# Altium integrated library Analog Devices Data Converters Analog-to-Digital Converters.IntLib: 2400 symbols (part 211 of 338)
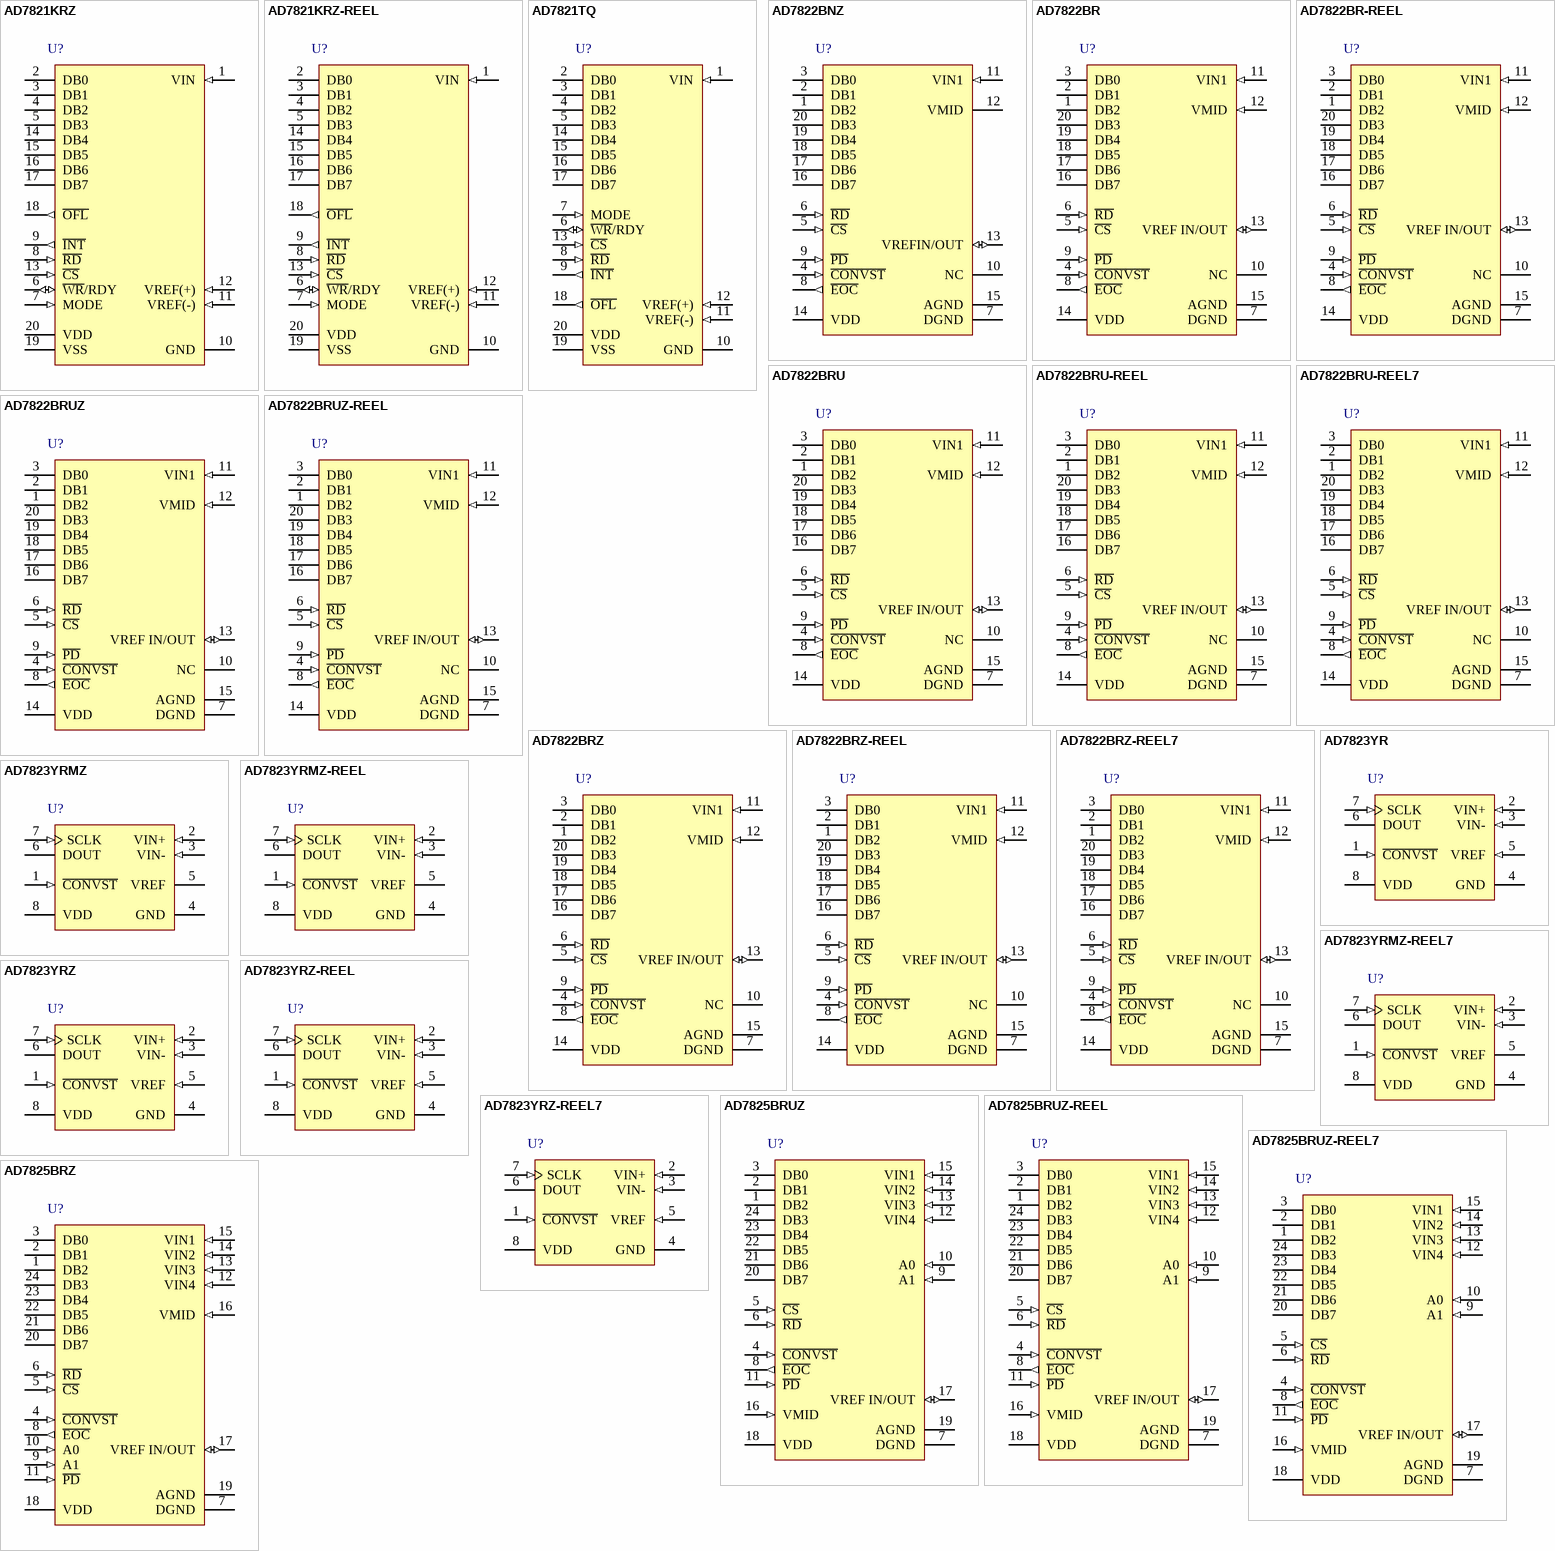
[diagram p271: symbols AD7821KRZ to AD7825BRZ]

## AD7822BRZ-REEL
designator U?
Single 8-Bit Sampling Analog-to-Digital Converter with Parallel Interface, 3 V / 5 V, 2MSPS, -40 to +85 degC, RW-20, Pb-Free, Reel; Part Number: AD7822; Manufacturer: Analog Devices; Resolution (Bits): 8; Channels: 1; Throughput Rate (SPS): 2M; Interface: Par; DatasheetVersion: Rev.C; PackageVersion: 060706-A; PackageReference: RW-20; PackageDescription: 20-Lead Standard Small Outline Package [SOIC_W] Wide Body; RoHS: Y; Packing: Reel; Mounting Technology: Surface Mount; Code_JEDEC: MS-013-AC; ComponentLink1Description: Manufacturer URL; ComponentLink1URL: http://www.analog.com/en/index.html; ComponentLink2Description: Datasheet; ComponentLink2URL: http://www.analog.com/static/imported-files/data_sheets/AD7822_7825_7829.pdf; ComponentLink3Description: Package Specification; ComponentLink3URL: http://www.analog.com/static/imported-files/packages/233848RW_20.pdf; ComponentLink4Description: Product URL; ComponentLink4URL: http://www.analog.com/en/analog-to-digital-converters/ad-converters/ad7822/products/product.html
footprint RW-20_N (SOIC, 20-Leads, Body 12.8x7.5mm, Pitch 1.27mm, IPC Medium Density)
footprint RW-20_L (SOIC, 20-Leads, Body 12.8x7.5mm, Pitch 1.27mm, IPC High Density)
footprint RW-20_M (SOIC, 20-Leads, Body 12.8x7.5mm, Pitch 1.27mm, IPC Low Density)
pins: 1 DB2 (hiz) "Data Output Lines. They are normally held in a high impedance state. Data is driven onto the data bus when both R\D\ and C\S\.", 2 DB1 (hiz) "Data Output Lines. They are normally held in a high impedance state. Data is driven onto the data bus when both R\D\ and C\S\.", 3 DB0 (hiz) "Data Output Lines. They are normally held in a high impedance state. Data is driven onto the data bus when both R\D\ and C\S\.", 4 ~{CONVST} (in) "Logic Input Signal. The convert start signal initiates an 8-bit analog-to-digital conversion on the falling edge of this signal. The falling edge of this signal places the track-and-hold in hold mode. The track-and-hold goes (See Datasheet)", 5 ~{CS} (in) "Logic Input Signal. The chip select signal is used to enable the parallel port of the AD7822/AD7825/AD7829. This is necessary if the ADC is sharing a common data bus with another device.", 6 ~{RD} (in) "Logic Input Signal. The read signal is used to take the output buffers out of their high impedance state and drive data onto the data bus. The signal is internally gated with the C\S\  signal. Both R\D\  and C\S\  must be (See Datasheet)", 7 DGND (power) "Digital Ground. Ground reference for digital circuitry.", 8 ~{EOC} (out) "Logic Output. The end-of-conversion signal indicates when a conversion has finished. The signal can be used to interrupt a microcontroller when a conversion has finished or latch data into a gate array (see the Parallel (See Datasheet)", 9 ~{PD} (in) "Logic Input. The power-down pin is present on the AD7822 and AD7825 only. Bringing the PD pin low places the AD7822 and AD7825 in power-down mode. The ADCs power up when PD is brought logic high again.", 10 NC "no connect", 11 VIN1 (in) "Analog Input Channels. The AD7822 has a single input channel; the AD7825 and AD7829 have four and eight analog input channels, respectively. The inputs have an input span of 2.5 V and 2 V depending on the supply voltage (See Datasheet)", 12 VMID (in) "The VMID pin, if connected, is used to center the analog input span anywhere in the range of AGND to VDD (see the Analog Input section).", 13 VREF IN/OUT (io) "Analog Input and Output. An external reference can be connected to the AD7822/AD7825/AD7829 at this pin. The on-chip reference is also available at this pin. When using the internal reference, this pin can be left (See Datasheet)", 14 VDD (power) "Positive Supply Voltage, 3 V +/- 10% and 5 V +/- 10%.", 15 AGND (power) "Analog Ground. Ground reference for track-and-hold, comparators, reference circuit, and multiplexer.", 16 DB7 (hiz) "Data Output Lines. They are normally held in a high impedance state. Data is driven onto the data bus when both R\D\ and C\S\.", 17 DB6 (hiz) "Data Output Lines. They are normally held in a high impedance state. Data is driven onto the data bus when both R\D\ and C\S\.", 18 DB5 (hiz) "Data Output Lines. They are normally held in a high impedance state. Data is driven onto the data bus when both R\D\ and C\S\.", 19 DB4 (hiz) "Data Output Lines. They are normally held in a high impedance state. Data is driven onto the data bus when both R\D\ and C\S\.", 20 DB3 (hiz) "Data Output Lines. They are normally held in a high impedance state. Data is driven onto the data bus when both R\D\ and C\S\."

## AD7822BRZ-REEL7
designator U?
Single 8-Bit Sampling Analog-to-Digital Converter with Parallel Interface, 3 V / 5 V, 2MSPS, -40 to +85 degC, RW-20, Pb-Free, Reel; Part Number: AD7822; Manufacturer: Analog Devices; Resolution (Bits): 8; Channels: 1; Throughput Rate (SPS): 2M; Interface: Par; DatasheetVersion: Rev.C; PackageVersion: 060706-A; PackageReference: RW-20; PackageDescription: 20-Lead Standard Small Outline Package [SOIC_W] Wide Body; RoHS: Y; Packing: Reel; Mounting Technology: Surface Mount; Code_JEDEC: MS-013-AC; ComponentLink1Description: Manufacturer URL; ComponentLink1URL: http://www.analog.com/en/index.html; ComponentLink2Description: Datasheet; ComponentLink2URL: http://www.analog.com/static/imported-files/data_sheets/AD7822_7825_7829.pdf; ComponentLink3Description: Package Specification; ComponentLink3URL: http://www.analog.com/static/imported-files/packages/233848RW_20.pdf; ComponentLink4Description: Product URL; ComponentLink4URL: http://www.analog.com/en/analog-to-digital-converters/ad-converters/ad7822/products/product.html
footprint RW-20_N (SOIC, 20-Leads, Body 12.8x7.5mm, Pitch 1.27mm, IPC Medium Density)
footprint RW-20_L (SOIC, 20-Leads, Body 12.8x7.5mm, Pitch 1.27mm, IPC High Density)
footprint RW-20_M (SOIC, 20-Leads, Body 12.8x7.5mm, Pitch 1.27mm, IPC Low Density)
pins: 1 DB2 (hiz) "Data Output Lines. They are normally held in a high impedance state. Data is driven onto the data bus when both R\D\ and C\S\.", 2 DB1 (hiz) "Data Output Lines. They are normally held in a high impedance state. Data is driven onto the data bus when both R\D\ and C\S\.", 3 DB0 (hiz) "Data Output Lines. They are normally held in a high impedance state. Data is driven onto the data bus when both R\D\ and C\S\.", 4 ~{CONVST} (in) "Logic Input Signal. The convert start signal initiates an 8-bit analog-to-digital conversion on the falling edge of this signal. The falling edge of this signal places the track-and-hold in hold mode. The track-and-hold goes (See Datasheet)", 5 ~{CS} (in) "Logic Input Signal. The chip select signal is used to enable the parallel port of the AD7822/AD7825/AD7829. This is necessary if the ADC is sharing a common data bus with another device.", 6 ~{RD} (in) "Logic Input Signal. The read signal is used to take the output buffers out of their high impedance state and drive data onto the data bus. The signal is internally gated with the C\S\  signal. Both R\D\  and C\S\  must be (See Datasheet)", 7 DGND (power) "Digital Ground. Ground reference for digital circuitry.", 8 ~{EOC} (out) "Logic Output. The end-of-conversion signal indicates when a conversion has finished. The signal can be used to interrupt a microcontroller when a conversion has finished or latch data into a gate array (see the Parallel (See Datasheet)", 9 ~{PD} (in) "Logic Input. The power-down pin is present on the AD7822 and AD7825 only. Bringing the PD pin low places the AD7822 and AD7825 in power-down mode. The ADCs power up when PD is brought logic high again.", 10 NC "no connect", 11 VIN1 (in) "Analog Input Channels. The AD7822 has a single input channel; the AD7825 and AD7829 have four and eight analog input channels, respectively. The inputs have an input span of 2.5 V and 2 V depending on the supply voltage (See Datasheet)", 12 VMID (in) "The VMID pin, if connected, is used to center the analog input span anywhere in the range of AGND to VDD (see the Analog Input section).", 13 VREF IN/OUT (io) "Analog Input and Output. An external reference can be connected to the AD7822/AD7825/AD7829 at this pin. The on-chip reference is also available at this pin. When using the internal reference, this pin can be left (See Datasheet)", 14 VDD (power) "Positive Supply Voltage, 3 V +/- 10% and 5 V +/- 10%.", 15 AGND (power) "Analog Ground. Ground reference for track-and-hold, comparators, reference circuit, and multiplexer.", 16 DB7 (hiz) "Data Output Lines. They are normally held in a high impedance state. Data is driven onto the data bus when both R\D\ and C\S\.", 17 DB6 (hiz) "Data Output Lines. They are normally held in a high impedance state. Data is driven onto the data bus when both R\D\ and C\S\.", 18 DB5 (hiz) "Data Output Lines. They are normally held in a high impedance state. Data is driven onto the data bus when both R\D\ and C\S\.", 19 DB4 (hiz) "Data Output Lines. They are normally held in a high impedance state. Data is driven onto the data bus when both R\D\ and C\S\.", 20 DB3 (hiz) "Data Output Lines. They are normally held in a high impedance state. Data is driven onto the data bus when both R\D\ and C\S\."

## AD7823YR
designator U?
Single 8-Bit Analog-to-Digital Converter with Serial Interface, 5 us, 2.7 V to 5.5 V, 200KSPS, -40 to +125 degC, R-8, Tube; Part Number: AD7823; Manufacturer: Analog Devices; Resolution (Bits): 8; Channels: 1; Throughput Rate (SPS): 200K; Interface: Ser; DatasheetVersion: Rev.C; PackageVersion: 060506-A; PackageReference: R-8; PackageDescription: 8-Lead Standard Small Outline Package [SOIC_N] Narrow Body; RoHS: N; Packing: Tube; Mounting Technology: Surface Mount; Code_JEDEC: MS-012-AA; Code_IPC: SOIC127P600-8; ComponentLink1Description: Manufacturer URL; ComponentLink1URL: http://www.analog.com/en/index.html; ComponentLink2Description: Datasheet; ComponentLink2URL: http://www.analog.com/static/imported-files/data_sheets/AD7823.pdf; ComponentLink3Description: Package Specification; ComponentLink3URL: http://www.analog.com/static/imported-files/packages/PKG_PDF/SOIC_Narrow%20(R)/R_8.pdf; ComponentLink4Description: Product URL; ComponentLink4URL: http://www.analog.com/en/analog-to-digital-converters/ad-converters/ad7823/products/product.html
footprint R-8_N (SOIC, 8-Leads, Body 4.9x3.9mm, Pitch 1.27mm, IPC Medium Density)
footprint R-8_L (SOIC, 8-Leads, Body 4.9x3.9mm, Pitch 1.27mm, IPC High Density)
footprint R-8_M (SOIC, 8-Leads, Body 4.9x3.9mm, Pitch 1.27mm, IPC Low Density)
pins: 1 ~{CONVST} (in) "Convert Start. Falling edge puts the track-and-hold into hold mode and initiates a conversion. A rising edge on the C\O\N\V\S\T\ pin enables the serial port of the AD7823. This is useful in multipackage applications where a (See Datasheet)", 2 VIN+ (in) "Positive input of the pseudo differential analog input.", 3 VIN- (in) "Negative input of the pseudo differential analog input.", 4 GND (power) "Ground reference for analog and digital circuitry.", 5 VREF (in) "External reference is connected here.", 6 DOUT (hiz) "Serial data is shifted out on this pin.", 7 SCLK (in) "Serial Clock. An external serial clock is applied here.", 8 VDD (power) "Positive Supply Voltage 2.7 V to 5.5 V."

## AD7823YRMZ
designator U?
Single 8-Bit Analog-to-Digital Converter with Serial Interface, 5 us, 2.7 V to 5.5 V, 200KSPS, -40 to +125 degC, RM-8, Pb-Free, Tube; Part Number: AD7823; Manufacturer: Analog Devices; Resolution (Bits): 8; Channels: 1; Throughput Rate (SPS): 200K; Interface: Ser; DatasheetVersion: Rev.C; PackageVersion: Aug-2005; PackageReference: RM-8; PackageDescription: 8-Lead Mini Small Outline Package [MSOP]; RoHS: Y; Packing: Tube; Mounting Technology: Surface Mount; Code_JEDEC: MO-187-AA; ComponentLink1Description: Manufacturer URL; ComponentLink1URL: http://www.analog.com/en/index.html; ComponentLink2Description: Datasheet; ComponentLink2URL: http://www.analog.com/static/imported-files/data_sheets/AD7823.pdf; ComponentLink3Description: Package Specification; ComponentLink3URL: http://www.analog.com/static/imported-files/packages/PKG_PDF/MSOP%28RM%29/RM_8.pdf; ComponentLink4Description: Product URL; ComponentLink4URL: http://www.analog.com/en/analog-to-digital-converters/ad-converters/ad7823/products/product.html
footprint RM-8_N (TSOP, 8-Leads, Body 3x3mm, Pitch 0.65mm, IPC Medium Density)
footprint RM-8_L (TSOP, 8-Leads, Body 3x3mm, Pitch 0.65mm, IPC High Density)
footprint RM-8_M (TSOP, 8-Leads, Body 3x3mm, Pitch 0.65mm, IPC Low Density)
pins: 1 ~{CONVST} (in) "Convert Start. Falling edge puts the track-and-hold into hold mode and initiates a conversion.A rising edge on the C\O\N\V\S\T\ pin enables the serial port of the AD7823. This is useful in multipackage applications where a (See Datasheet)", 2 VIN+ (in) "Positive input of the pseudo differential analog input.", 3 VIN- (in) "Negative input of the pseudo differential analog input.", 4 GND (power) "Ground reference for analog and digital circuitry.", 5 VREF "External reference is connected here.", 6 DOUT (hiz) "Serial data is shifted out on this pin.", 7 SCLK (in) "Serial Clock. An external serial clock is applied here.", 8 VDD (power) "Positive Supply Voltage 2.7 V to 5.5 V."

## AD7823YRMZ-REEL
designator U?
Single 8-Bit Analog-to-Digital Converter with Serial Interface, 5 us, 2.7 V to 5.5 V, 200KSPS, -40 to +125 degC, RM-8, Pb-Free, Reel; Part Number: AD7823; Manufacturer: Analog Devices; Resolution (Bits): 8; Channels: 1; Throughput Rate (SPS): 200K; Interface: Ser; DatasheetVersion: Rev.C; PackageVersion: Aug-2005; PackageReference: RM-8; PackageDescription: 8-Lead Mini Small Outline Package [MSOP]; RoHS: Y; Packing: Reel; Mounting Technology: Surface Mount; Code_JEDEC: MO-187-AA; ComponentLink1Description: Manufacturer URL; ComponentLink1URL: http://www.analog.com/en/index.html; ComponentLink2Description: Datasheet; ComponentLink2URL: http://www.analog.com/static/imported-files/data_sheets/AD7823.pdf; ComponentLink3Description: Package Specification; ComponentLink3URL: http://www.analog.com/static/imported-files/packages/PKG_PDF/MSOP%28RM%29/RM_8.pdf; ComponentLink4Description: Product URL; ComponentLink4URL: http://www.analog.com/en/analog-to-digital-converters/ad-converters/ad7823/products/product.html
footprint RM-8_N (TSOP, 8-Leads, Body 3x3mm, Pitch 0.65mm, IPC Medium Density)
footprint RM-8_L (TSOP, 8-Leads, Body 3x3mm, Pitch 0.65mm, IPC High Density)
footprint RM-8_M (TSOP, 8-Leads, Body 3x3mm, Pitch 0.65mm, IPC Low Density)
pins: 1 ~{CONVST} (in) "Convert Start. Falling edge puts the track-and-hold into hold mode and initiates a conversion.A rising edge on the C\O\N\V\S\T\ pin enables the serial port of the AD7823. This is useful in multipackage applications where a (See Datasheet)", 2 VIN+ (in) "Positive input of the pseudo differential analog input.", 3 VIN- (in) "Negative input of the pseudo differential analog input.", 4 GND (power) "Ground reference for analog and digital circuitry.", 5 VREF "External reference is connected here.", 6 DOUT (hiz) "Serial data is shifted out on this pin.", 7 SCLK (in) "Serial Clock. An external serial clock is applied here.", 8 VDD (power) "Positive Supply Voltage 2.7 V to 5.5 V."

## AD7823YRMZ-REEL7
designator U?
Single 8-Bit Analog-to-Digital Converter with Serial Interface, 5 us, 2.7 V to 5.5 V, 200KSPS, -40 to +125 degC, RM-8, Pb-Free, Reel; Part Number: AD7823; Manufacturer: Analog Devices; Resolution (Bits): 8; Channels: 1; Throughput Rate (SPS): 200K; Interface: Ser; DatasheetVersion: Rev.C; PackageVersion: Aug-2005; PackageReference: RM-8; PackageDescription: 8-Lead Mini Small Outline Package [MSOP]; RoHS: Y; Packing: Reel; Mounting Technology: Surface Mount; Code_JEDEC: MO-187-AA; ComponentLink1Description: Manufacturer URL; ComponentLink1URL: http://www.analog.com/en/index.html; ComponentLink2Description: Datasheet; ComponentLink2URL: http://www.analog.com/static/imported-files/data_sheets/AD7823.pdf; ComponentLink3Description: Package Specification; ComponentLink3URL: http://www.analog.com/static/imported-files/packages/PKG_PDF/MSOP%28RM%29/RM_8.pdf; ComponentLink4Description: Product URL; ComponentLink4URL: http://www.analog.com/en/analog-to-digital-converters/ad-converters/ad7823/products/product.html
footprint RM-8_N (TSOP, 8-Leads, Body 3x3mm, Pitch 0.65mm, IPC Medium Density)
footprint RM-8_L (TSOP, 8-Leads, Body 3x3mm, Pitch 0.65mm, IPC High Density)
footprint RM-8_M (TSOP, 8-Leads, Body 3x3mm, Pitch 0.65mm, IPC Low Density)
pins: 1 ~{CONVST} (in) "Convert Start. Falling edge puts the track-and-hold into hold mode and initiates a conversion.A rising edge on the C\O\N\V\S\T\ pin enables the serial port of the AD7823. This is useful in multipackage applications where a (See Datasheet)", 2 VIN+ (in) "Positive input of the pseudo differential analog input.", 3 VIN- (in) "Negative input of the pseudo differential analog input.", 4 GND (power) "Ground reference for analog and digital circuitry.", 5 VREF "External reference is connected here.", 6 DOUT (hiz) "Serial data is shifted out on this pin.", 7 SCLK (in) "Serial Clock. An external serial clock is applied here.", 8 VDD (power) "Positive Supply Voltage 2.7 V to 5.5 V."

## AD7823YRZ
designator U?
Single 8-Bit Analog-to-Digital Converter with Serial Interface, 5 us, 2.7 V to 5.5 V, 200KSPS, -40 to +125 degC, R-8, Pb-Free, Tube; Part Number: AD7823; Manufacturer: Analog Devices; Resolution (Bits): 8; Channels: 1; Throughput Rate (SPS): 200K; Interface: Ser; DatasheetVersion: Rev.C; PackageVersion: 060506-A; PackageReference: R-8; PackageDescription: 8-Lead Standard Small Outline Package [SOIC_N] Narrow Body; RoHS: Y; Packing: Tube; Mounting Technology: Surface Mount; Code_JEDEC: MS-012-AA; Code_IPC: SOIC127P600-8; ComponentLink1Description: Manufacturer URL; ComponentLink1URL: http://www.analog.com/en/index.html; ComponentLink2Description: Datasheet; ComponentLink2URL: http://www.analog.com/static/imported-files/data_sheets/AD7823.pdf; ComponentLink3Description: Package Specification; ComponentLink3URL: http://www.analog.com/static/imported-files/packages/PKG_PDF/SOIC_Narrow%20(R)/R_8.pdf; ComponentLink4Description: Product URL; ComponentLink4URL: http://www.analog.com/en/analog-to-digital-converters/ad-converters/ad7823/products/product.html
footprint R-8_N (SOIC, 8-Leads, Body 4.9x3.9mm, Pitch 1.27mm, IPC Medium Density)
footprint R-8_L (SOIC, 8-Leads, Body 4.9x3.9mm, Pitch 1.27mm, IPC High Density)
footprint R-8_M (SOIC, 8-Leads, Body 4.9x3.9mm, Pitch 1.27mm, IPC Low Density)
pins: 1 ~{CONVST} (in) "Convert Start. Falling edge puts the track-and-hold into hold mode and initiates a conversion. A rising edge on the C\O\N\V\S\T\ pin enables the serial port of the AD7823. This is useful in multipackage applications where a (See Datasheet)", 2 VIN+ (in) "Positive input of the pseudo differential analog input.", 3 VIN- (in) "Negative input of the pseudo differential analog input.", 4 GND (power) "Ground reference for analog and digital circuitry.", 5 VREF (in) "External reference is connected here.", 6 DOUT (hiz) "Serial data is shifted out on this pin.", 7 SCLK (in) "Serial Clock. An external serial clock is applied here.", 8 VDD (power) "Positive Supply Voltage 2.7 V to 5.5 V."

## AD7823YRZ-REEL
designator U?
Single 8-Bit Analog-to-Digital Converter with Serial Interface, 5 us, 2.7 V to 5.5 V, 200KSPS, -40 to +125 degC, R-8, Pb-Free, Reel; Part Number: AD7823; Manufacturer: Analog Devices; Resolution (Bits): 8; Channels: 1; Throughput Rate (SPS): 200K; Interface: Ser; DatasheetVersion: Rev.C; PackageVersion: 060506-A; PackageReference: R-8; PackageDescription: 8-Lead Standard Small Outline Package [SOIC_N] Narrow Body; RoHS: Y; Packing: Reel; Mounting Technology: Surface Mount; Code_JEDEC: MS-012-AA; Code_IPC: SOIC127P600-8; ComponentLink1Description: Manufacturer URL; ComponentLink1URL: http://www.analog.com/en/index.html; ComponentLink2Description: Datasheet; ComponentLink2URL: http://www.analog.com/static/imported-files/data_sheets/AD7823.pdf; ComponentLink3Description: Package Specification; ComponentLink3URL: http://www.analog.com/static/imported-files/packages/PKG_PDF/SOIC_Narrow%20(R)/R_8.pdf; ComponentLink4Description: Product URL; ComponentLink4URL: http://www.analog.com/en/analog-to-digital-converters/ad-converters/ad7823/products/product.html
footprint R-8_N (SOIC, 8-Leads, Body 4.9x3.9mm, Pitch 1.27mm, IPC Medium Density)
footprint R-8_L (SOIC, 8-Leads, Body 4.9x3.9mm, Pitch 1.27mm, IPC High Density)
footprint R-8_M (SOIC, 8-Leads, Body 4.9x3.9mm, Pitch 1.27mm, IPC Low Density)
pins: 1 ~{CONVST} (in) "Convert Start. Falling edge puts the track-and-hold into hold mode and initiates a conversion. A rising edge on the C\O\N\V\S\T\ pin enables the serial port of the AD7823. This is useful in multipackage applications where a (See Datasheet)", 2 VIN+ (in) "Positive input of the pseudo differential analog input.", 3 VIN- (in) "Negative input of the pseudo differential analog input.", 4 GND (power) "Ground reference for analog and digital circuitry.", 5 VREF (in) "External reference is connected here.", 6 DOUT (hiz) "Serial data is shifted out on this pin.", 7 SCLK (in) "Serial Clock. An external serial clock is applied here.", 8 VDD (power) "Positive Supply Voltage 2.7 V to 5.5 V."

## AD7823YRZ-REEL7
designator U?
Single 8-Bit Analog-to-Digital Converter with Serial Interface, 5 us, 2.7 V to 5.5 V, 200KSPS, -40 to +125 degC, R-8, Pb-Free, Reel; Part Number: AD7823; Manufacturer: Analog Devices; Resolution (Bits): 8; Channels: 1; Throughput Rate (SPS): 200K; Interface: Ser; DatasheetVersion: Rev.C; PackageVersion: 060506-A; PackageReference: R-8; PackageDescription: 8-Lead Standard Small Outline Package [SOIC_N] Narrow Body; RoHS: Y; Packing: Reel; Mounting Technology: Surface Mount; Code_JEDEC: MS-012-AA; Code_IPC: SOIC127P600-8; ComponentLink1Description: Manufacturer URL; ComponentLink1URL: http://www.analog.com/en/index.html; ComponentLink2Description: Datasheet; ComponentLink2URL: http://www.analog.com/static/imported-files/data_sheets/AD7823.pdf; ComponentLink3Description: Package Specification; ComponentLink3URL: http://www.analog.com/static/imported-files/packages/PKG_PDF/SOIC_Narrow%20(R)/R_8.pdf; ComponentLink4Description: Product URL; ComponentLink4URL: http://www.analog.com/en/analog-to-digital-converters/ad-converters/ad7823/products/product.html
footprint R-8_N (SOIC, 8-Leads, Body 4.9x3.9mm, Pitch 1.27mm, IPC Medium Density)
footprint R-8_L (SOIC, 8-Leads, Body 4.9x3.9mm, Pitch 1.27mm, IPC High Density)
footprint R-8_M (SOIC, 8-Leads, Body 4.9x3.9mm, Pitch 1.27mm, IPC Low Density)
pins: 1 ~{CONVST} (in) "Convert Start. Falling edge puts the track-and-hold into hold mode and initiates a conversion. A rising edge on the C\O\N\V\S\T\ pin enables the serial port of the AD7823. This is useful in multipackage applications where a (See Datasheet)", 2 VIN+ (in) "Positive input of the pseudo differential analog input.", 3 VIN- (in) "Negative input of the pseudo differential analog input.", 4 GND (power) "Ground reference for analog and digital circuitry.", 5 VREF (in) "External reference is connected here.", 6 DOUT (hiz) "Serial data is shifted out on this pin.", 7 SCLK (in) "Serial Clock. An external serial clock is applied here.", 8 VDD (power) "Positive Supply Voltage 2.7 V to 5.5 V."

## AD7825BRUZ
designator U?
Quad 8-Bit Sampling Analog-to-Digital Converter with Parallel Interface, 3 V / 5 V, 2MSPS, -40 to +85 degC, RU-24, Pb-Free, Tube; Part Number: AD7825; Manufacturer: Analog Devices; Resolution (Bits): 8; Channels: 4; Throughput Rate (SPS): 2M; Interface: Par; DatasheetVersion: Rev.C; PackageVersion: 2002; PackageReference: RU-24; PackageDescription: 24-Lead Thin Shrink Small Outline Package [TSSOP]; RoHS: Y; Packing: Tube; Mounting Technology: Surface Mount; Code_JEDEC: MO-153-AD; ComponentLink1Description: Manufacturer URL; ComponentLink1URL: http://www.analog.com/en/index.html; ComponentLink2Description: Datasheet; ComponentLink2URL: http://www.analog.com/static/imported-files/data_sheets/AD7822_7825_7829.pdf; ComponentLink3Description: Package Specification; ComponentLink3URL: http://www.analog.com/static/imported-files/packages/380523655245964505593671154107510036154RU24.pdf; ComponentLink4Description: Product URL; ComponentLink4URL: http://www.analog.com/en/analog-to-digital-converters/ad-converters/ad7825/products/product.html
footprint RU-24_N (TSOP, 24-Leads, Body 7.8x4.4mm, Pitch 0.65mm, IPC Medium Density)
footprint RU-24_L (TSOP, 24-Leads, Body 7.8x4.4mm, Pitch 0.65mm, IPC High Density)
footprint RU-24_M (TSOP, 24-Leads, Body 7.8x4.4mm, Pitch 0.65mm, IPC Low Density)
pins: 1 DB2 (hiz) "Data Output Lines. They are normally held in a high impedance state. Data is driven onto the data bus when both R\D\ and C\S\ go active low.", 2 DB1 (hiz) "Data Output Lines. They are normally held in a high impedance state. Data is driven onto the data bus when both R\D\ and C\S\ go active low.", 3 DB0 (hiz) "Data Output Lines. They are normally held in a high impedance state. Data is driven onto the data bus when both R\D\ and C\S\ go active low.", 4 ~{CONVST} (in) "Logic Input Signal. The convert start signal initiates an 8-bit analog-to-digital conversion on the falling edge of this signal. The falling edge of this signal places the track-and-hold in hold mode. The track-and-hold goes (See Datasheet)", 5 ~{CS} (in) "Logic Input Signal. The chip select signal is used to enable the parallel port of the AD7822/AD7825/AD7829. This is necessary if the ADC is sharing a common data bus with another device.", 6 ~{RD} (in) "Logic Input Signal. The read signal is used to take the output buffers out of their high impedance state and drive data onto the data bus. The signal is internally gated with the C\S\ signal. Both R\D\ and C\S\ must be logic (See Datasheet)", 7 DGND (power) "Digital Ground. Ground reference for digital circuitry.", 8 ~{EOC} (out) "Logic Output. The end-of-conversion signal indicates when a conversion has finished. The signal can be used to interrupt a microcontroller when a conversion has finished or latch data into a gate array (see the Parallel (See Datasheet)", 9 A1 (in) "Channel Address Inputs. The address of the next multiplexer channel must be present on these inputs when the R\D\ signal goes low.", 10 A0 (in) "Channel Address Inputs. The address of the next multiplexer channel must be present on these inputs when the R\D\ signal goes low.", 11 ~{PD} (in) "Logic Input. The power-down pin is present on the AD7822 and AD7825 only. Bringing the P\D\ pin low places the AD7822 and AD7825 in power-down mode. The ADCs power up when P\D\ is brought logic high again.", 12 VIN4 (in) "Analog Input Channels. The AD7822 has a single input channel; the AD7825 and AD7829 have four and eight analog input channels, respectively. The inputs have an input span of 2.5 V and 2 V depending on the supply voltage (See Datasheet)", 13 VIN3 (in) "Analog Input Channels. The AD7822 has a single input channel; the AD7825 and AD7829 have four and eight analog input channels, respectively. The inputs have an input span of 2.5 V and 2 V depending on the supply voltage (See Datasheet)", 14 VIN2 (in) "Analog Input Channels. The AD7822 has a single input channel; the AD7825 and AD7829 have four and eight analog input channels, respectively. The inputs have an input span of 2.5 V and 2 V depending on the supply voltage (See Datasheet)", 15 VIN1 (in) "Analog Input Channels. The AD7822 has a single input channel; the AD7825 and AD7829 have four and eight analog input channels, respectively. The inputs have an input span of 2.5 V and 2 V depending on the supply voltage (See Datasheet)", 16 VMID (in) "The VMID pin, if connected, is used to center the analog input span anywhere in the range of AGND to VDD (see the Analog Input section).", 17 VREF IN/OUT (io) "Analog Input and Output. An external reference can be connected to the AD7822/AD7825/AD7829 at this pin. The on-chip reference is also available at this pin. When using the internal reference, this pin can be left (See Datasheet)", 18 VDD (power) "Positive Supply Voltage, 3 V +/- 10% and 5 V +/- 10%.", 19 AGND (power) "Analog Ground. Ground reference for track-and-hold, comparators, reference circuit, and multiplexer.", 20 DB7 (hiz) "Data Output Lines. They are normally held in a high impedance state. Data is driven onto the data bus when both R\D\ and C\S\ go active low.", 21 DB6 (hiz) "Data Output Lines. They are normally held in a high impedance state. Data is driven onto the data bus when both R\D\ and C\S\ go active low.", 22 DB5 (hiz) "Data Output Lines. They are normally held in a high impedance state. Data is driven onto the data bus when both R\D\ and C\S\ go active low.", 23 DB4 (hiz) "Data Output Lines. They are normally held in a high impedance state. Data is driven onto the data bus when both R\D\ and C\S\ go active low.", 24 DB3 (hiz) "Data Output Lines. They are normally held in a high impedance state. Data is driven onto the data bus when both R\D\ and C\S\ go active low."

## AD7825BRUZ-REEL
designator U?
Quad 8-Bit Sampling Analog-to-Digital Converter with Parallel Interface, 3 V / 5 V, 2MSPS, -40 to +85 degC, RU-24, Pb-Free, Reel; Part Number: AD7825; Manufacturer: Analog Devices; Resolution (Bits): 8; Channels: 4; Throughput Rate (SPS): 2M; Interface: Par; DatasheetVersion: Rev.C; PackageVersion: 2002; PackageReference: RU-24; PackageDescription: 24-Lead Thin Shrink Small Outline Package [TSSOP]; RoHS: Y; Packing: Reel; Mounting Technology: Surface Mount; Code_JEDEC: MO-153-AD; ComponentLink1Description: Manufacturer URL; ComponentLink1URL: http://www.analog.com/en/index.html; ComponentLink2Description: Datasheet; ComponentLink2URL: http://www.analog.com/static/imported-files/data_sheets/AD7822_7825_7829.pdf; ComponentLink3Description: Package Specification; ComponentLink3URL: http://www.analog.com/static/imported-files/packages/380523655245964505593671154107510036154RU24.pdf; ComponentLink4Description: Product URL; ComponentLink4URL: http://www.analog.com/en/analog-to-digital-converters/ad-converters/ad7825/products/product.html
footprint RU-24_N (TSOP, 24-Leads, Body 7.8x4.4mm, Pitch 0.65mm, IPC Medium Density)
footprint RU-24_L (TSOP, 24-Leads, Body 7.8x4.4mm, Pitch 0.65mm, IPC High Density)
footprint RU-24_M (TSOP, 24-Leads, Body 7.8x4.4mm, Pitch 0.65mm, IPC Low Density)
pins: 1 DB2 (hiz) "Data Output Lines. They are normally held in a high impedance state. Data is driven onto the data bus when both R\D\ and C\S\ go active low.", 2 DB1 (hiz) "Data Output Lines. They are normally held in a high impedance state. Data is driven onto the data bus when both R\D\ and C\S\ go active low.", 3 DB0 (hiz) "Data Output Lines. They are normally held in a high impedance state. Data is driven onto the data bus when both R\D\ and C\S\ go active low.", 4 ~{CONVST} (in) "Logic Input Signal. The convert start signal initiates an 8-bit analog-to-digital conversion on the falling edge of this signal. The falling edge of this signal places the track-and-hold in hold mode. The track-and-hold goes (See Datasheet)", 5 ~{CS} (in) "Logic Input Signal. The chip select signal is used to enable the parallel port of the AD7822/AD7825/AD7829. This is necessary if the ADC is sharing a common data bus with another device.", 6 ~{RD} (in) "Logic Input Signal. The read signal is used to take the output buffers out of their high impedance state and drive data onto the data bus. The signal is internally gated with the C\S\ signal. Both R\D\ and C\S\ must be logic (See Datasheet)", 7 DGND (power) "Digital Ground. Ground reference for digital circuitry.", 8 ~{EOC} (out) "Logic Output. The end-of-conversion signal indicates when a conversion has finished. The signal can be used to interrupt a microcontroller when a conversion has finished or latch data into a gate array (see the Parallel (See Datasheet)", 9 A1 (in) "Channel Address Inputs. The address of the next multiplexer channel must be present on these inputs when the R\D\ signal goes low.", 10 A0 (in) "Channel Address Inputs. The address of the next multiplexer channel must be present on these inputs when the R\D\ signal goes low.", 11 ~{PD} (in) "Logic Input. The power-down pin is present on the AD7822 and AD7825 only. Bringing the P\D\ pin low places the AD7822 and AD7825 in power-down mode. The ADCs power up when P\D\ is brought logic high again.", 12 VIN4 (in) "Analog Input Channels. The AD7822 has a single input channel; the AD7825 and AD7829 have four and eight analog input channels, respectively. The inputs have an input span of 2.5 V and 2 V depending on the supply voltage (See Datasheet)", 13 VIN3 (in) "Analog Input Channels. The AD7822 has a single input channel; the AD7825 and AD7829 have four and eight analog input channels, respectively. The inputs have an input span of 2.5 V and 2 V depending on the supply voltage (See Datasheet)", 14 VIN2 (in) "Analog Input Channels. The AD7822 has a single input channel; the AD7825 and AD7829 have four and eight analog input channels, respectively. The inputs have an input span of 2.5 V and 2 V depending on the supply voltage (See Datasheet)", 15 VIN1 (in) "Analog Input Channels. The AD7822 has a single input channel; the AD7825 and AD7829 have four and eight analog input channels, respectively. The inputs have an input span of 2.5 V and 2 V depending on the supply voltage (See Datasheet)", 16 VMID (in) "The VMID pin, if connected, is used to center the analog input span anywhere in the range of AGND to VDD (see the Analog Input section).", 17 VREF IN/OUT (io) "Analog Input and Output. An external reference can be connected to the AD7822/AD7825/AD7829 at this pin. The on-chip reference is also available at this pin. When using the internal reference, this pin can be left (See Datasheet)", 18 VDD (power) "Positive Supply Voltage, 3 V +/- 10% and 5 V +/- 10%.", 19 AGND (power) "Analog Ground. Ground reference for track-and-hold, comparators, reference circuit, and multiplexer.", 20 DB7 (hiz) "Data Output Lines. They are normally held in a high impedance state. Data is driven onto the data bus when both R\D\ and C\S\ go active low.", 21 DB6 (hiz) "Data Output Lines. They are normally held in a high impedance state. Data is driven onto the data bus when both R\D\ and C\S\ go active low.", 22 DB5 (hiz) "Data Output Lines. They are normally held in a high impedance state. Data is driven onto the data bus when both R\D\ and C\S\ go active low.", 23 DB4 (hiz) "Data Output Lines. They are normally held in a high impedance state. Data is driven onto the data bus when both R\D\ and C\S\ go active low.", 24 DB3 (hiz) "Data Output Lines. They are normally held in a high impedance state. Data is driven onto the data bus when both R\D\ and C\S\ go active low."

## AD7825BRUZ-REEL7
designator U?
Quad 8-Bit Sampling Analog-to-Digital Converter with Parallel Interface, 3 V / 5 V, 2MSPS, -40 to +85 degC, RU-24, Pb-Free, Reel; Part Number: AD7825; Manufacturer: Analog Devices; Resolution (Bits): 8; Channels: 4; Throughput Rate (SPS): 2M; Interface: Par; DatasheetVersion: Rev.C; PackageVersion: 2002; PackageReference: RU-24; PackageDescription: 24-Lead Thin Shrink Small Outline Package [TSSOP]; RoHS: Y; Packing: Reel; Mounting Technology: Surface Mount; Code_JEDEC: MO-153-AD; ComponentLink1Description: Manufacturer URL; ComponentLink1URL: http://www.analog.com/en/index.html; ComponentLink2Description: Datasheet; ComponentLink2URL: http://www.analog.com/static/imported-files/data_sheets/AD7822_7825_7829.pdf; ComponentLink3Description: Package Specification; ComponentLink3URL: http://www.analog.com/static/imported-files/packages/380523655245964505593671154107510036154RU24.pdf; ComponentLink4Description: Product URL; ComponentLink4URL: http://www.analog.com/en/analog-to-digital-converters/ad-converters/ad7825/products/product.html
footprint RU-24_N (TSOP, 24-Leads, Body 7.8x4.4mm, Pitch 0.65mm, IPC Medium Density)
footprint RU-24_L (TSOP, 24-Leads, Body 7.8x4.4mm, Pitch 0.65mm, IPC High Density)
footprint RU-24_M (TSOP, 24-Leads, Body 7.8x4.4mm, Pitch 0.65mm, IPC Low Density)
pins: 1 DB2 (hiz) "Data Output Lines. They are normally held in a high impedance state. Data is driven onto the data bus when both R\D\ and C\S\ go active low.", 2 DB1 (hiz) "Data Output Lines. They are normally held in a high impedance state. Data is driven onto the data bus when both R\D\ and C\S\ go active low.", 3 DB0 (hiz) "Data Output Lines. They are normally held in a high impedance state. Data is driven onto the data bus when both R\D\ and C\S\ go active low.", 4 ~{CONVST} (in) "Logic Input Signal. The convert start signal initiates an 8-bit analog-to-digital conversion on the falling edge of this signal. The falling edge of this signal places the track-and-hold in hold mode. The track-and-hold goes (See Datasheet)", 5 ~{CS} (in) "Logic Input Signal. The chip select signal is used to enable the parallel port of the AD7822/AD7825/AD7829. This is necessary if the ADC is sharing a common data bus with another device.", 6 ~{RD} (in) "Logic Input Signal. The read signal is used to take the output buffers out of their high impedance state and drive data onto the data bus. The signal is internally gated with the C\S\ signal. Both R\D\ and C\S\ must be logic (See Datasheet)", 7 DGND (power) "Digital Ground. Ground reference for digital circuitry.", 8 ~{EOC} (out) "Logic Output. The end-of-conversion signal indicates when a conversion has finished. The signal can be used to interrupt a microcontroller when a conversion has finished or latch data into a gate array (see the Parallel (See Datasheet)", 9 A1 (in) "Channel Address Inputs. The address of the next multiplexer channel must be present on these inputs when the R\D\ signal goes low.", 10 A0 (in) "Channel Address Inputs. The address of the next multiplexer channel must be present on these inputs when the R\D\ signal goes low.", 11 ~{PD} (in) "Logic Input. The power-down pin is present on the AD7822 and AD7825 only. Bringing the P\D\ pin low places the AD7822 and AD7825 in power-down mode. The ADCs power up when P\D\ is brought logic high again.", 12 VIN4 (in) "Analog Input Channels. The AD7822 has a single input channel; the AD7825 and AD7829 have four and eight analog input channels, respectively. The inputs have an input span of 2.5 V and 2 V depending on the supply voltage (See Datasheet)", 13 VIN3 (in) "Analog Input Channels. The AD7822 has a single input channel; the AD7825 and AD7829 have four and eight analog input channels, respectively. The inputs have an input span of 2.5 V and 2 V depending on the supply voltage (See Datasheet)", 14 VIN2 (in) "Analog Input Channels. The AD7822 has a single input channel; the AD7825 and AD7829 have four and eight analog input channels, respectively. The inputs have an input span of 2.5 V and 2 V depending on the supply voltage (See Datasheet)", 15 VIN1 (in) "Analog Input Channels. The AD7822 has a single input channel; the AD7825 and AD7829 have four and eight analog input channels, respectively. The inputs have an input span of 2.5 V and 2 V depending on the supply voltage (See Datasheet)", 16 VMID (in) "The VMID pin, if connected, is used to center the analog input span anywhere in the range of AGND to VDD (see the Analog Input section).", 17 VREF IN/OUT (io) "Analog Input and Output. An external reference can be connected to the AD7822/AD7825/AD7829 at this pin. The on-chip reference is also available at this pin. When using the internal reference, this pin can be left (See Datasheet)", 18 VDD (power) "Positive Supply Voltage, 3 V +/- 10% and 5 V +/- 10%.", 19 AGND (power) "Analog Ground. Ground reference for track-and-hold, comparators, reference circuit, and multiplexer.", 20 DB7 (hiz) "Data Output Lines. They are normally held in a high impedance state. Data is driven onto the data bus when both R\D\ and C\S\ go active low.", 21 DB6 (hiz) "Data Output Lines. They are normally held in a high impedance state. Data is driven onto the data bus when both R\D\ and C\S\ go active low.", 22 DB5 (hiz) "Data Output Lines. They are normally held in a high impedance state. Data is driven onto the data bus when both R\D\ and C\S\ go active low.", 23 DB4 (hiz) "Data Output Lines. They are normally held in a high impedance state. Data is driven onto the data bus when both R\D\ and C\S\ go active low.", 24 DB3 (hiz) "Data Output Lines. They are normally held in a high impedance state. Data is driven onto the data bus when both R\D\ and C\S\ go active low."

## AD7825BRZ
designator U?
Quad 8-Bit Sampling Analog-to-Digital Converter with Parallel Interface, 3 V / 5 V, 2MSPS, -40 to +85 degC, RW-24, Pb-Free, Tube; Part Number: AD7825; Manufacturer: Analog Devices; Resolution (Bits): 8; Channels: 4; Throughput Rate (SPS): 2M; Interface: Par; DatasheetVersion: Rev.C; PackageVersion: 060706-A; PackageReference: RW-24; PackageDescription: 24-Lead Standard Small Outline Package [SOIC_W]; RoHS: Y; Packing: Tube; Mounting Technology: Surface Mount; Code_JEDEC: MS-013-AD; ComponentLink1Description: Manufacturer URL; ComponentLink1URL: http://www.analog.com/en/index.html; ComponentLink2Description: Datasheet; ComponentLink2URL: http://www.analog.com/static/imported-files/data_sheets/AD7822_7825_7829.pdf; ComponentLink3Description: Package Specification; ComponentLink3URL: http://www.analog.com/static/imported-files/packages/33665150946139RW_24.pdf; ComponentLink4Description: Product URL; ComponentLink4URL: http://www.analog.com/en/analog-to-digital-converters/ad-converters/ad7825/products/product.html
footprint RW-24_N (SOIC, 24-Leads, Body 15.4x7.5mm, Pitch 1.27mm, IPC Medium Density)
footprint RW-24_L (SOIC, 24-Leads, Body 15.4x7.5mm, Pitch 1.27mm, IPC High Density)
footprint RW-24_M (SOIC, 24-Leads, Body 15.4x7.5mm, Pitch 1.27mm, IPC Low Density)
pins: 1 DB2 (hiz) "Data Output Lines. They are normally held in a high impedance state. Data is driven onto the data bus when both R\D\ and C\S\ go active low.", 2 DB1 (hiz) "Data Output Lines. They are normally held in a high impedance state. Data is driven onto the data bus when both R\D\ and C\S\ go active low.", 3 DB0 (hiz) "Data Output Lines. They are normally held in a high impedance state. Data is driven onto the data bus when both R\D\ and C\S\ go active low.", 4 ~{CONVST} (in) "Logic Input Signal. The convert start signal initiates an 8-bit analog-to-digital conversion on the falling edge of this signal. The falling edge of this signal places the track-and-hold in hold mode. The track-and-hold goes (See Datasheet)", 5 ~{CS} (in) "Logic Input Signal. The chip select signal is used to enable the parallel port of the AD7822/AD7825/AD7829. This is necessary if the ADC is sharing a common data bus with another device.", 6 ~{RD} (in) "Logic Input Signal. The read signal is used to take the output buffers out of their high impedance state and drive data onto the data bus. The signal is internally gated with the C\S\ signal. Both R\D\ and C\S\ must be logic (See Datasheet)", 7 DGND (power) "Digital Ground. Ground reference for digital circuitry.", 8 ~{EOC} (out) "Logic Output. The end-of-conversion signal indicates when a conversion has finished. The signal can be used to interrupt a microcontroller when a conversion has finished or latch data into a gate array (see the Parallel (See Datasheet)", 9 A1 (in) "Channel Address Inputs. The address of the next multiplexer channel must be present on these inputs when the R\D\ signal goes low.", 10 A0 (in) "Channel Address Inputs. The address of the next multiplexer channel must be present on these inputs when the R\D\ signal goes low.", 11 ~{PD} (in) "Logic Input. The power-down pin is present on the AD7822 and AD7825 only. Bringing the P\D\ pin low places the AD7822 and AD7825 in power-down mode. The ADCs power up when P\D\ is brought logic high again.", 12 VIN4 (in) "Analog Input Channels. The AD7822 has a single input channel; the AD7825 and AD7829 have four and eight analog input channels, respectively. The inputs have an input span of 2.5 V and 2 V depending on the supply voltage (See Datasheet)", 13 VIN3 (in) "Analog Input Channels. The AD7822 has a single input channel; the AD7825 and AD7829 have four and eight analog input channels, respectively. The inputs have an input span of 2.5 V and 2 V depending on the supply voltage (See Datasheet)", 14 VIN2 (in) "Analog Input Channels. The AD7822 has a single input channel; the AD7825 and AD7829 have four and eight analog input channels, respectively. The inputs have an input span of 2.5 V and 2 V depending on the supply voltage (See Datasheet)", 15 VIN1 (in) "Analog Input Channels. The AD7822 has a single input channel; the AD7825 and AD7829 have four and eight analog input channels, respectively. The inputs have an input span of 2.5 V and 2 V depending on the supply voltage (See Datasheet)", 16 VMID (in) "The VMID pin, if connected, is used to center the analog input span anywhere in the range of AGND to VDD (see the Analog Input section).", 17 VREF IN/OUT (io) "Analog Input and Output. An external reference can be connected to the AD7822/AD7825/AD7829 at this pin. The on-chip reference is also available at this pin. When using the internal reference, this pin can be left (See Datasheet)", 18 VDD (power) "Positive Supply Voltage, 3 V +/- 10% and 5 V +/- 10%.", 19 AGND (power) "Analog Ground. Ground reference for track-and-hold, comparators, reference circuit, and multiplexer.", 20 DB7 (hiz) "Data Output Lines. They are normally held in a high impedance state. Data is driven onto the data bus when both R\D\ and C\S\ go active low.", 21 DB6 (hiz) "Data Output Lines. They are normally held in a high impedance state. Data is driven onto the data bus when both R\D\ and C\S\ go active low.", 22 DB5 (hiz) "Data Output Lines. They are normally held in a high impedance state. Data is driven onto the data bus when both R\D\ and C\S\ go active low.", 23 DB4 (hiz) "Data Output Lines. They are normally held in a high impedance state. Data is driven onto the data bus when both R\D\ and C\S\ go active low.", 24 DB3 (hiz) "Data Output Lines. They are normally held in a high impedance state. Data is driven onto the data bus when both R\D\ and C\S\ go active low."

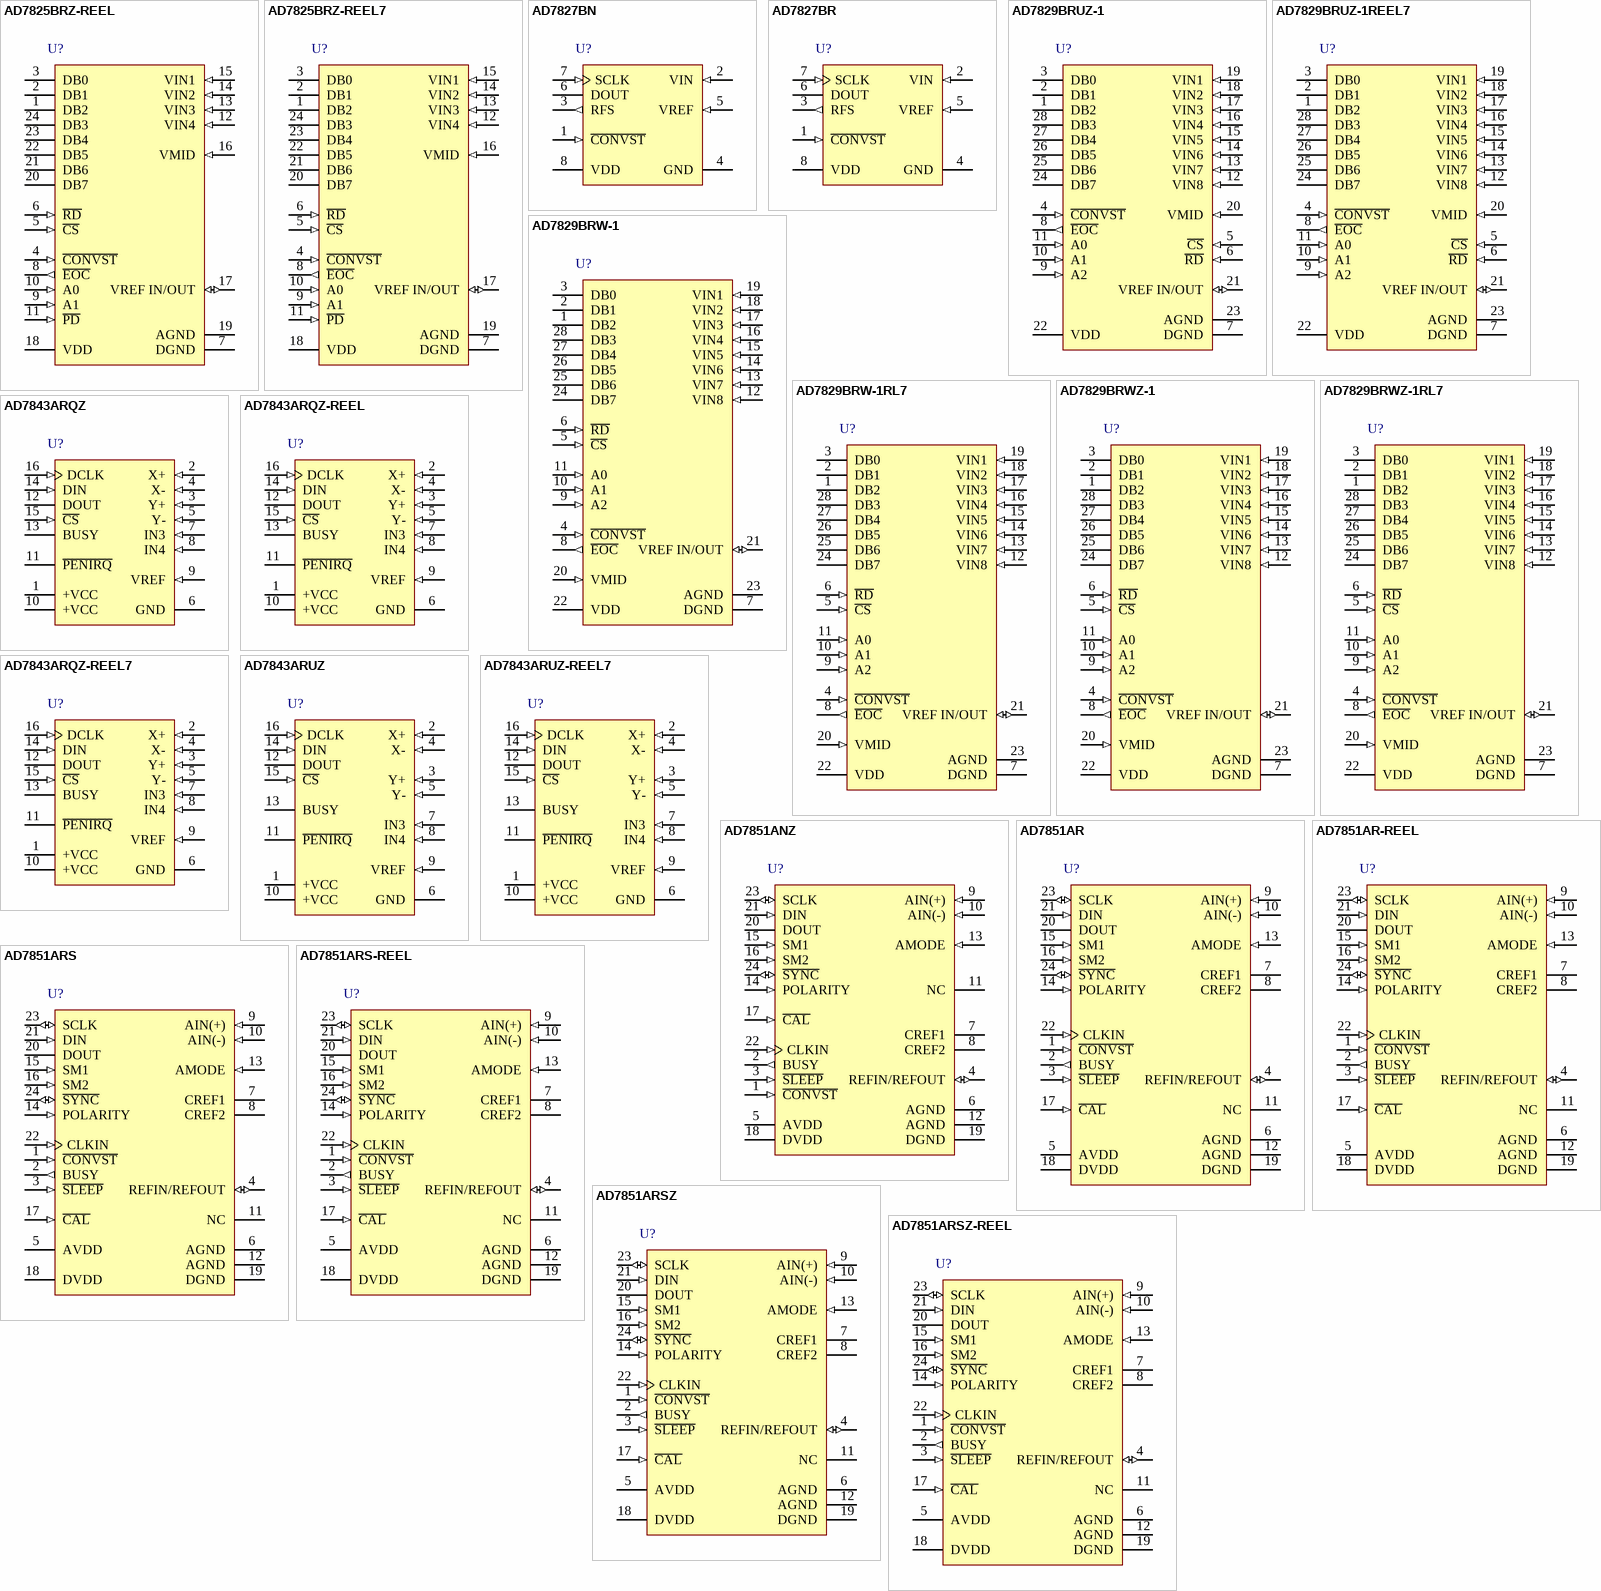
[diagram p66: symbols AD7825BRZ-REEL to AD7851ARSZ-REEL]